# EAGLE library part EL7156CNZ (library Intersil_By_element14_Batch_1)
High Performance Pin Driver
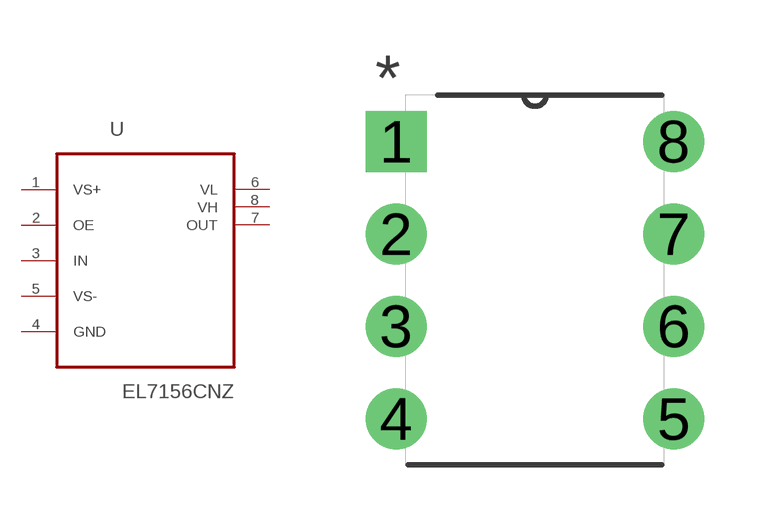
[diagram p66: symbol with the pads of DIP254P762X533-8; footprint DIP254P762X533-8]

Designator prefix U

## EL7156CNZ (MPN: EL7156CNZ; OC_FARNELL: 1562049; OC_NEWARK: 79K6444; PACKAGE: PDIP-8; SUPPLIER: INTERSIL)  [DIP254P762X533-8]
1  VS+  pwr
2  OE  in
3  IN  in
4  GND  pas
5  VS-  pwr
6  VL  pwr
7  OUT  out
8  VH  pwr

## Footprint DIP254P762X533-8 (pad centres in mm)
drill 1.118 square: 1 -7.62,7.62
drill 1.118: 2 -7.62,5.08; 3 -7.62,2.54; 4 -7.62,0; 5 0,0; 6 0,2.54; 7 0,5.08; 8 0,7.62